# EAGLE library part TEXAS_INSTRUMENTS-ETHERNET_TRANSCEIVER-DP83826E (library Module_ICs)
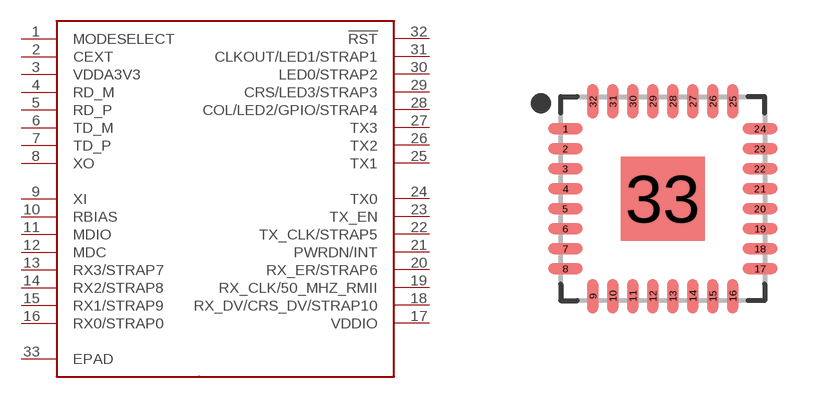
[diagram p56: symbol with the pads of TEXAS_INSTRUMENTS-ETHERNET_TRANSCEIVER-DP83826E; footprint TEXAS_INSTRUMENTS-ETHERNET_TRANSCEIVER-DP83826E]

Designator prefix U

## TEXAS_INSTRUMENTS-ETHERNET_TRANSCEIVER-DP83826E  [TEXAS_INSTRUMENTS-ETHERNET_TRANSCEIVER-DP83826E]
1  MODESELECT
2  CEXT
3  VDDA3V3
4  RD_M
5  RD_P
6  TD_M
7  TD_P
8  XO
9  XI
10  RBIAS
11  MDIO
12  MDC
13  RX3/STRAP7
14  RX2/STRAP8
15  RX1/STRAP9
16  RX0/STRAP0
17  VDDIO
18  RX_DV/CRS_DV/STRAP10
19  RX_CLK/50_MHZ_RMII
20  RX_ER/STRAP6
21  PWRDN/INT
22  TX_CLK/STRAP5
23  TX_EN
24  TX0
25  TX1
26  TX2
27  TX3
28  COL/LED2/GPIO/STRAP4
29  CRS/LED3/STRAP3
30  LED0/STRAP2
31  CLKOUT/LED1/STRAP1
32  !RST
33  EPAD

## Footprint TEXAS_INSTRUMENTS-ETHERNET_TRANSCEIVER-DP83826E (pad centres in mm)
32-QFN, 0.50 mm pitch, 5.00 X 5.00 X 1.00 mm body, 2.10 X 2.10 mm thermal pad 32-pin QFN package with 0.50 mm pitch with body size 5.00 X 5.00 X 1.00 mm and thermal pad size 2.10 X 2.10 mm
smd 0.86 x 0.27: 1 -2.435,1.75; 2 -2.435,1.25; 3 -2.435,0.75; 4 -2.435,0.25; 5 -2.435,-0.25; 6 -2.435,-0.75; 7 -2.435,-1.25; 8 -2.435,-1.75; 17 2.435,-1.75; 18 2.435,-1.25; 19 2.435,-0.75; 20 2.435,-0.25; 21 2.435,0.25; 22 2.435,0.75; 23 2.435,1.25; 24 2.435,1.75
smd 0.27 x 0.86: 9 -1.75,-2.435; 10 -1.25,-2.435; 11 -0.75,-2.435; 12 -0.25,-2.435; 13 0.25,-2.435; 14 0.75,-2.435; 15 1.25,-2.435; 16 1.75,-2.435; 25 1.75,2.435; 26 1.25,2.435; 27 0.75,2.435; 28 0.25,2.435; 29 -0.25,2.435; 30 -0.75,2.435; 31 -1.25,2.435; 32 -1.75,2.435
smd 2.1 x 2.1: 33 0,0